# EAGLE library part IN-7 (library russian-nixies)
IN-7: large symbol topview nixie tube
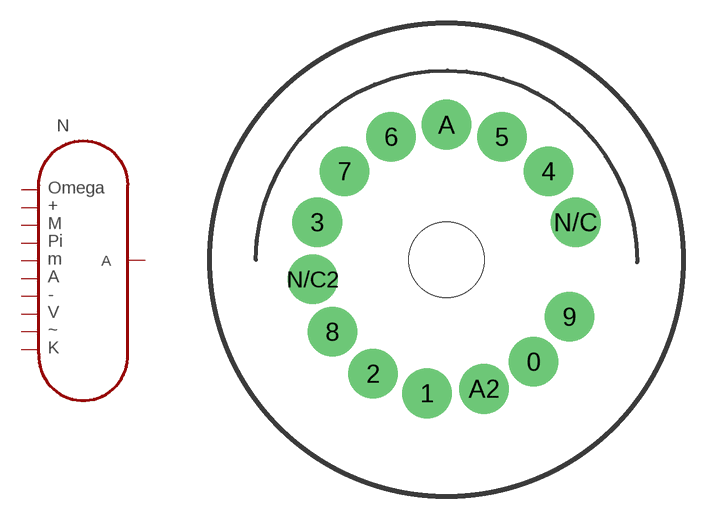
[diagram p16: symbol with the pads of IN-18; footprint IN-18]

Designator prefix N

## IN-7  [IN-18]
0  P$10
1  P$1
3  P$8
4  A
6  P$5
7  P$6
8  P$3
9  P$7
A  P$2
A2  P$9
N/C  P$4

## Footprint IN-18 (pad centres in mm)
May be used with socket: PL31-P
drill 2.3 pad 3.2: 0 5.8,-6.8; 1 -1.3,-8.9; 2 -4.9,-7.6; 3 -8.6,2.5; 4 6.8,5.9; 5 3.7,8.2; 6 -3.7,8.2; 7 -6.8,5.9; 8 -7.6,-4.8; 9 8.2,-3.8; A 0,9; A2 2.5,-8.6; N/C 8.6,2.5; N/C2 -8.9,-1.3
hole 5 at 0,0